# Altium footprint library Activos.PcbLib: 60 footprints (part 1 of 4)
Each footprint in its own frame and in the unit in brackets; x right, y up, seen from the top. Pads: shape width x height; smd on the part's side, far side on the other; paste and mask are expansions set on the pad; w line width, h text height; cw(c..) or ccw(c..) is an arc to the next point about the centre after c.
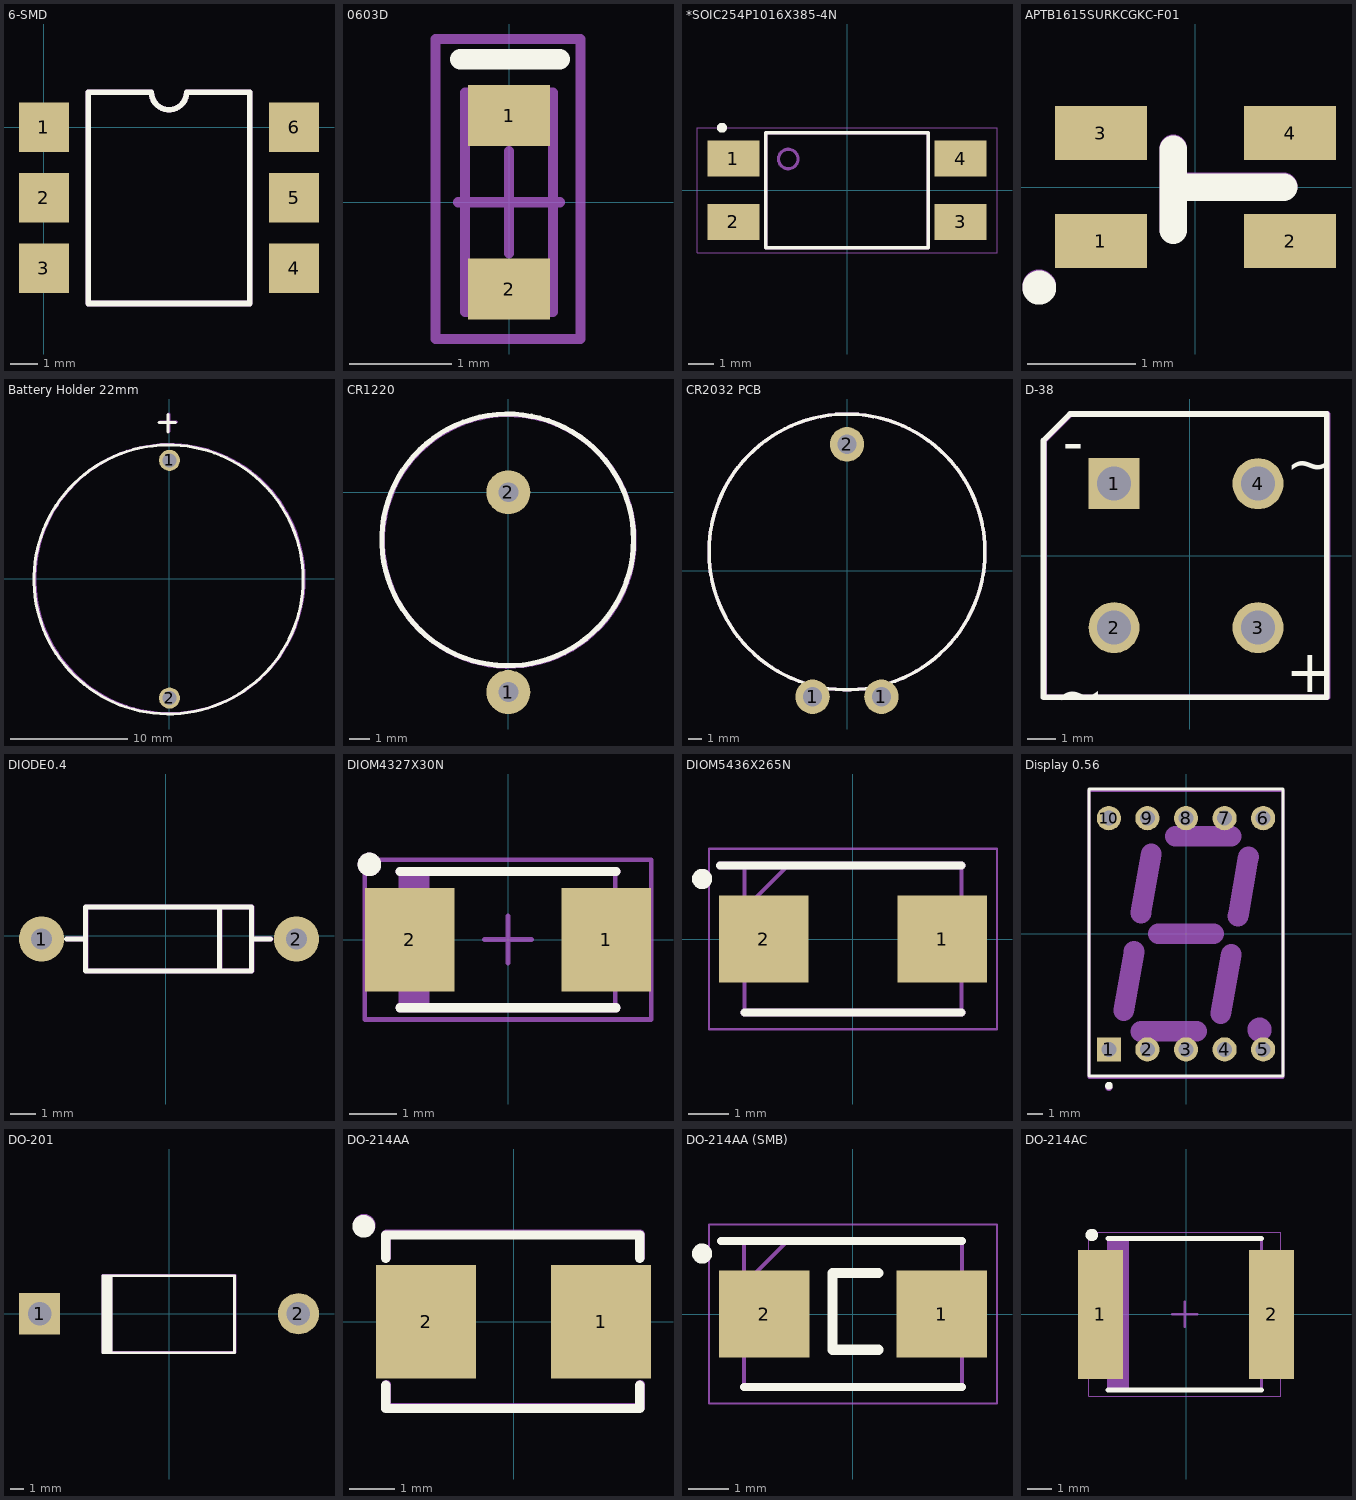
[diagram p0: the footprints below, top view; thin cyan lines are the x and y axes]

## 6-SMD [mm] "Optotransistor 4NXX"
pads (6):
  rect 1.8x1.78 smd: 1(0,0) 2(0,-2.54) 3(0,-5.08) 4(9.015,-5.08) 5(9.015,-2.54) 6(9.015,0)
Top Overlay:
  lines w0.2: 1.595,-6.35 1.595,1.27 3.872,1.27 ccw(c4.507,1.27) 5.142,1.27 7.42,1.27 7.42,-6.35 1.595,-6.35
Mechanical 29:
  lines w0.2: 1.595,-6.35 7.42,-6.35 7.42,1.27 5.142,1.27 cw(c4.507,1.27) 3.872,1.27 1.595,1.27 1.595,-6.35
  text "'.Designator'" at 4.469,0.396 h0.5
3D body "6-SMD.step": height 3.61, standoff 0, extent -0.635,-6.223 9.525,1.067

## 0603D [mm] "Diode 0603"
pads (2):
  rect 0.8x0.6 smd: 1(0,0.85) 2(0,-0.85)
Top Overlay:
  lines w0.2: -0.48,1.4 0.5,1.4
Mechanical 13:
  lines w0.1: -0.43,-1.075 0.43,-1.075 0.43,1.075 -0.43,1.075 -0.43,-1.075
Mechanical 15:
  lines w0.1: -0.5,0 0.5,0 ; 0,-0.5 0,0.5 ; -0.72,-1.34 -0.72,1.6 0.7,1.6 0.7,-1.34 -0.72,-1.34
3D body "CDSU101A.STEP": height 0.85, standoff 0, extent -0.49,-0.93 0.51,0.87

## *SOIC254P1016X385-4N [mm]
pads (4):
  rect 2.09x1.44 smd: 1(-4.54,1.27) 2(-4.54,-1.27) 3(4.54,-1.27) 4(4.54,1.27)
Top Overlay:
  circle w0.2: c-5,2.5 r0.1
  lines w0.127: -3.25,-2.3 -3.25,2.3 3.25,2.3 3.25,-2.3 -3.25,-2.3
Mechanical 13:
  circle w0.127: c-2.35,1.25 r0.391
  circle w0.127: c-2.35,1.25 r0.391
  lines w0.127: -3.25,-2.3 -3.25,2.3 ; -3.25,-2.3 3.25,-2.3 ; -3.25,-2.3 -3.25,2.3 ; -3.25,-2.3 3.25,-2.3 ; -3.25,2.3 3.25,2.3 ; -3.25,2.3 3.25,2.3 ; 3.25,-2.3 3.25,2.3 ; 3.25,-2.3 3.25,2.3
Mechanical 15:
  lines w0.05: -6,-2.5 -6,2.5 6,2.5 6,-2.5 -6,-2.5
3D body "User Library-LAN0019-01.step": height 2.2, standoff 0, extent -4.49,-2.195 4.69,2.195

## APTB1615SURKCGKC-F01 [mm] "LED GREEN/RED CLEAR 0606 SMD"
pads (4):
  rect 0.85x0.5 smd: 1(-0.875,-0.5) 2(0.875,-0.5) 3(-0.875,0.5) 4(0.875,0.5)
Top Overlay:
  circle w0.254: c-1.445,-0.93 r0.03
  lines w0.254: -0.205,-0.4 -0.205,0.35 ; -0.205,0 0.815,0
Mechanical 29:
  circle w0.254: c-1.445,-0.92 r0.03
  lines w0.254: -0.205,-0.39 -0.205,0.36 ; -0.205,0.01 0.815,0.01
3D body "APTB1615.STEP": height 0.69, standoff -0.01, extent -0.805,-0.75 0.795,0.75

## Battery Holder 22mm [mm] "Holder BAT 22mm"
pads (2):
  round 1.8 hole 1.2: 1(0,10.14) 2(0,-10.18)
Top Overlay:
  circle w0.254: c-0.08,-0.04 r11.5
  lines w0.254: -0.88,13.36 0.52,13.36 ; -0.13,12.56 -0.13,14.06
Mechanical 29:
  circle w0.254: c0,0 r11.5
  lines w0.254: -0.8,13.4 0.6,13.4 ; -0.05,12.6 -0.05,14.1
  text "'.Designator'" at -0.356,-0.051 h0.5
3D body "keystone 502.step": height 6.94, standoff -5.88, extent -9.831,-11.133 9.219,11.651

## CR1220 [mm] "Coin, 12.5mm"
pads (2):
  round 2.2 hole 1: 1(0,-10) 2(0,0)
Top Overlay:
  circle w0.254: c-0.03,-2.383 r6.3
Mechanical 29:
  circle w0.254: c0,-2.413 r6.3
  text "'.Designator'" at -0.406,-2.271 h0.5
3D body "CR1220.STEP": height 4.5, standoff -1.9, extent -6.223,-10.152 6.277,3.548

## CR2032 PCB [mm]
pads (3):
  round 2.5 hole 1.4: 1(-2.5,-9.15) 1(2.5,-9.15) 2(0,9.15)
Top Overlay:
  circle w0.25: c0,1.35 r10
Mechanical 29:
  circle w0.25: c0,1.35 r10
  text "'.Designator'" at -0.456,1.149 h0.5
3D body "cr2032 pcb, lithium battery-1.step": height 6.95, standoff -4.27, extent -10.016,-9.106 9.983,11.143

## D-38 [mm] "Puente rectificador"
pads (4):
  rect 1.8x1.8 hole 1.2: 1(-2.667,2.54)
  round 1.8 hole 1.2: 2(-2.667,-2.54) 3(2.413,-2.54) 4(2.413,2.54)
Top Overlay:
  lines w0.2: -5.157,-5 4.843,-5 4.843,5 -4.221,5 -5.157,4.064 -5.157,-5
  text "~" at 3.399,2.54 h1.5
  text "~" at -4.729,-5.588 h1.5
  text "-" at -4.475,3.302 h1.5
  text "+" at 3.399,-4.826 h1.5
Mechanical 29:
  lines w0.2: -5.127,-5 -5.127,4.064 -4.191,5 4.873,5 4.873,-5 -5.127,-5
  text "+" at 3.429,-4.826 h1.5
  text "-" at -4.445,3.302 h1.5
  text "~" at -4.699,-5.588 h1.5
  text "~" at 3.429,2.54 h1.5
  text "'.Designator'" at -0.366,-0.061 h0.5
3D body "Diode Brigde.STEP": height 5.3, standoff -4, extent -4.5,-4.555 4.5,4.445

## DIODE0.4 [mm] "1N4XXX"
pads (2):
  round 1.8 hole 0.85: 1(-4.953,-0.127) 2(5.207,-0.127)
Top Overlay:
  lines w0.2: -3.957,-0.127 -3.195,-0.127 ; 2.139,-1.397 2.139,1.143 ; 3.409,-0.127 4.171,-0.127 ; -3.195,-1.397 3.409,-1.397 3.409,1.143 -3.195,1.143 -3.195,-1.397
Mechanical 29:
  lines w0.2: -3.937,-0.127 -3.175,-0.127 ; 2.159,-1.397 2.159,1.143 ; 3.429,-0.127 4.191,-0.127 ; -3.175,-1.397 -3.175,1.143 3.429,1.143 3.429,-1.397 -3.175,-1.397
  text "'.Designator'" at -2.886,-0.351 h0.5
3D body "DIODE0.4.STEP": height 2.64, standoff -1.54, extent -5.219,-0.991 5.473,0.762

## DIOM4327X30N [mm] "Molded Diode, 2-Leads, Body 4,3x2,7mm, IPC Medium Density"
height 2.95
pads (2):
  rect 1.9x2.2 smd: 1(2.093,0) 2(-2.093,0)
Top Overlay:
  circle w0.25: c-2.95,1.6 r0.125
  lines w0.2: -2.3,-1.45 2.3,-1.45 ; -2.3,1.45 2.3,1.45
Mechanical 13:
  rectangle: -2.285,-1.42 -1.67,1.42
  lines w0.1: -2.285,-1.42 2.285,-1.42 2.285,1.42 -2.285,1.42 -2.285,-1.42
Mechanical 15:
  lines w0.1: -0.5,0 0.5,0 ; 0,-0.5 0,0.5 ; -3.05,-1.7 3.05,-1.7 3.05,1.7 -3.05,1.7 -3.05,-1.7
Mechanical 29:
  circle w0.25: c-2.95,1.6 r0.125
  lines w0.2: -2.3,-1.45 2.3,-1.45 ; -2.3,1.45 2.3,1.45
  text "'.Designator'" at -1.476,-0.041 h0.5
3D body "DO-214AC SMA.step": height 2.4, standoff 0, extent -2.473,-1.33 2.727,1.27

## DIOM5436X265N [mm]
pads (2):
  rect 2.2x2.15 smd: 1(2.2,0) 2(-2.2,0)
Top Overlay:
  circle w0.25: c-3.72,1.48 r0.125
  lines w0.2: -3.275,1.812 2.675,1.812 ; -2.675,-1.812 2.675,-1.812
Mechanical 15:
  lines w0.1: -2.675,0.738 -1.6,1.812 ; -2.675,-1.812 -2.675,1.812 2.675,1.812 2.675,-1.812 -2.675,-1.812
Mechanical 16:
  lines w0.05: -3.55,-2.225 -3.55,2.225 3.55,2.225 3.55,-2.225 -3.55,-2.225
Mechanical 29:
  lines w0.2: -3.275,1.812 2.675,1.812 ; -2.675,-1.812 2.675,-1.812
  text "'.Designator'" at -0.366,-0.041 h0.5
3D body "SM6T15CA.stp": height 2.65, standoff 0, extent -2.675,-1.812 2.675,1.813

## Display 0.56 [mm] "Display 0.56\""
pads (10):
  rect 1.6x1.6 / inner rect 1.5x1.6 / far side rect 1.5x1.6 hole 1: 1(-5.08,-7.62)
  round 1.6 / inner oval 1.5x1.6 / far side oval 1.5x1.6 hole 1: 2(-2.54,-7.62) 3(0,-7.62) 4(2.54,-7.62) 5(5.08,-7.62) 6(5.08,7.62) 7(2.54,7.62) 8(0,7.62) 9(-2.54,7.62) 10(-5.08,7.62)
Top Overlay:
  circle w0.25: c-5.08,-10.01 r0.125
  lines w0.2: -6.4,-9.36 -6.4,9.54 6.4,9.54 6.4,-9.36 -6.4,-9.36
Mechanical 1:
  circle w1: c4.842,-6.316 r0.296
  lines w1.37: -4.108,-5.053 -3.425,-1.17 ; -2.974,1.368 -2.293,5.255 ; -2.958,-6.429 0.692,-6.426 ; -1.821,0 1.828,0 ; -0.689,6.425 2.96,6.425 ; 2.295,-5.256 2.98,-1.371 ; 3.427,1.169 4.11,5.058
Mechanical 13:
  lines w0.1: -6.4,-9.45 -6.4,9.45 6.4,9.45 6.4,-9.45 -6.4,-9.45
Mechanical 29:
  circle w0.25: c-5.08,-10.1 r0.125
  lines w0.2: -6.4,-9.45 6.4,-9.45 6.4,9.45 -6.4,9.45 -6.4,-9.45
  text "'.Designator'" at -0.316,-0.051 h0.5
3D body "Disp_SA56-11.STEP": height 8.03, standoff -3.97, extent -6.3,-9.525 6.4,9.525

## DO-201 [mm]
pads (2):
  rect 3x3 hole 1.7: 1(-9.42,0)
  round 3 hole 1.7: 2(9.42,0)
Top Overlay:
  region: -4.13,2.77 -4.93,2.77 -4.93,-2.83 -4.13,-2.83
  lines w0.2: -4.83,-2.83 4.77,-2.83 4.77,2.77 -4.83,2.77
Mechanical 29:
  region: -4.1,2.8 -4.9,2.8 -4.9,-2.8 -4.1,-2.8
  lines w0.2: -4.8,-2.8 4.8,-2.8 4.8,2.8 -4.8,2.8
  text "'.Designator'" at -3.57,-0.2 h0.5
3D body "DO-201.STEP": height 7.35, standoff -1.93, extent -10.116,-3.185 10.146,3.165

## DO-214AA [mm]
pads (2):
  rect 2.2x2.5 smd: 1(1.925,0) 2(-1.925,0)
Top Overlay:
  circle w0.25: c-3.3,2.1 r0.125
  lines w0.2: -2.814,-1.397 -2.814,-1.905 2.774,-1.905 2.774,-1.397 ; -2.814,1.397 -2.814,1.905 2.774,1.905 2.774,1.397
Mechanical 29:
  circle w0.25: c-3.29,2.12 r0.125
  lines w0.2: -2.804,-1.377 -2.804,-1.885 2.784,-1.885 2.784,-1.377 ; -2.804,1.417 -2.804,1.925 2.784,1.925 2.784,1.417
  text "'.Designator'" at -2.49,-0.11 h0.5
3D body "DO-214AA(SMB).step": height 2.6, standoff -0.05, extent -2.694,-1.975 2.894,1.975

## DO-214AA (SMB) [mm]
pads (2):
  rect 2.25x2.15 smd: 1(2.2,0) 2(-2.2,0)
Top Overlay:
  circle w0.25: c-3.747,1.5 r0.125
  lines w0.2: -3.275,1.812 2.702,1.812 ; -2.702,-1.812 2.702,-1.812
  lines w0.254: 0.635,-0.889 -0.508,-0.889 -0.508,1.016 0.635,1.016
Mechanical 13:
  lines w0.1: -2.702,0.738 -1.628,1.812 ; -2.702,-1.812 -2.702,1.812 2.702,1.812 2.702,-1.812 -2.702,-1.812
Mechanical 15:
  lines w0.05: -3.575,-2.225 -3.575,2.225 3.575,2.225 3.575,-2.225 -3.575,-2.225
3D body "MURS220T3G.stp": height 2.47, standoff 0, extent -2.702,-1.813 2.702,1.813

## DO-214AC [mm] "DO-214AB (Molded Diode, 2-Leads, Body 6,13x6,02mm, IPC Medium Density)"
height 5.43
pads (2):
  rect 1.8x5.2 smd: 1(-3.45,0) 2(3.45,0)
Top Overlay:
  circle w0.25: c-3.8,3.2 r0.125
  lines w0.2: -3.15,-3.05 3.05,-3.05 ; -3.15,3.05 3.05,3.05
Mechanical 13:
  rectangle: -3.14,-3.05 -2.309,3.05
  lines w0.1: -3.14,-3.05 -3.14,3.05 3.04,3.05 3.04,-3.05 -3.14,-3.05
Mechanical 15:
  lines w0.05: -3.925,-3.3 -3.925,3.3 3.825,3.3 3.825,-3.3 -3.925,-3.3
  lines w0.1: -0.55,0 0.45,0 ; -0.05,-0.5 -0.05,0.5
Mechanical 29:
  rectangle: -3.13,-3.04 -2.299,3.06
  lines w0.1: -3.13,-3.04 3.05,-3.04 3.05,3.06 -3.13,3.06 -3.13,-3.04
  text "'.Designator'" at -2.018,0.043 h0.5
3D body "DO-214AB SMC.step": height 2.5, standoff 0.2, extent -4.025,-2.85 3.925,3.05